# EAGLE library part R8C (library mbed-microcontroller)
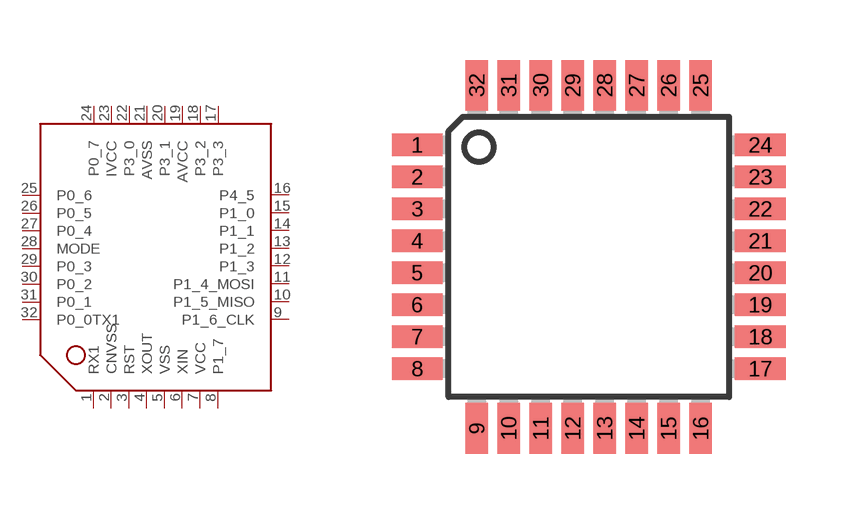
[diagram p12: symbol with the pads of PLQP32; footprint PLQP32]

Designator prefix -

## R8C  [PLQP32]
1  RX1
2  CNVSS
3  RST
4  XOUT
5  VSS
6  XIN
7  VCC
8  P1_7
9  P1_6_CLK
10  P1_5_MISO
11  P1_4_MOSI
12  P1_3
13  P1_2
14  P1_1
15  P1_0
16  P4_5
17  P3_3
18  P3_2
19  AVCC
20  P3_1
21  AVSS
22  P3_0
23  IVCC
24  P0_7
25  P0_6
26  P0_5
27  P0_4
28  MODE
29  P0_3
30  P0_2
31  P0_1
32  P0_0TX1

## Footprint PLQP32 (pad centres in mm)
smd 1.27 x 0.559: 1 -4.293,2.8; 2 -4.293,2; 3 -4.293,1.2; 4 -4.293,0.4; 5 -4.293,-0.4; 6 -4.293,-1.2; 7 -4.293,-2; 8 -4.293,-2.8; 17 4.293,-2.8; 18 4.293,-2; 19 4.293,-1.2; 20 4.293,-0.4; 21 4.293,0.4; 22 4.293,1.2; 23 4.293,2; 24 4.293,2.8
smd 0.559 x 1.27: 9 -2.8,-4.293; 10 -2,-4.293; 11 -1.2,-4.293; 12 -0.4,-4.293; 13 0.4,-4.293; 14 1.2,-4.293; 15 2,-4.293; 16 2.8,-4.293; 25 2.8,4.293; 26 2,4.293; 27 1.2,4.293; 28 0.4,4.293; 29 -0.4,4.293; 30 -1.2,4.293; 31 -2,4.293; 32 -2.8,4.293